# Altium footprint library B3202X.PcbLib: 35 footprints (part 3 of 3)
Each footprint in its own frame and in the unit in brackets; x right, y up, seen from the top. Pads: shape width x height; smd on the part's side, far side on the other; paste and mask are expansions set on the pad; w line width, h text height; cw(c..) or ccw(c..) is an arc to the next point about the centre after c.
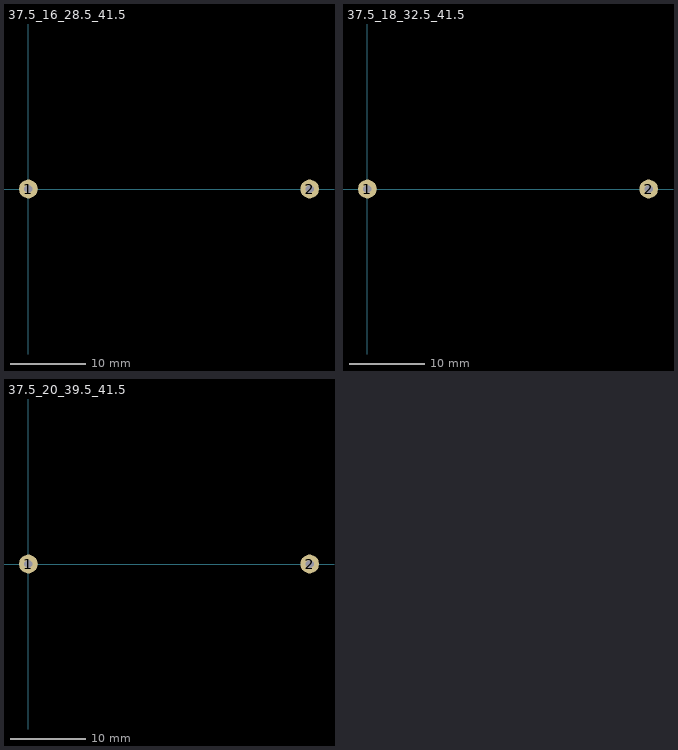
[diagram p2: the footprints below, top view; thin cyan lines are the x and y axes]

## 37.5_16_28.5_41.5 [mm]
pads (2):
  round 2.5 hole 1.1: 1(0,0) 2(37.5,0)

## 37.5_18_32.5_41.5 [mm]
pads (2):
  round 2.5 hole 1.1: 1(0,0) 2(37.5,0)

## 37.5_20_39.5_41.5 [mm]
pads (2):
  round 2.5 hole 1.1: 1(0,0) 2(37.5,0)